# Altium footprint library RADIAL, CAN - THRU 25.4mm.PcbLib: 1 footprints
Each footprint in its own frame and in the unit in brackets; x right, y up, seen from the top. Pads: shape width x height; smd on the part's side, far side on the other; paste and mask are expansions set on the pad; w line width, h text height; cw(c..) or ccw(c..) is an arc to the next point about the centre after c.
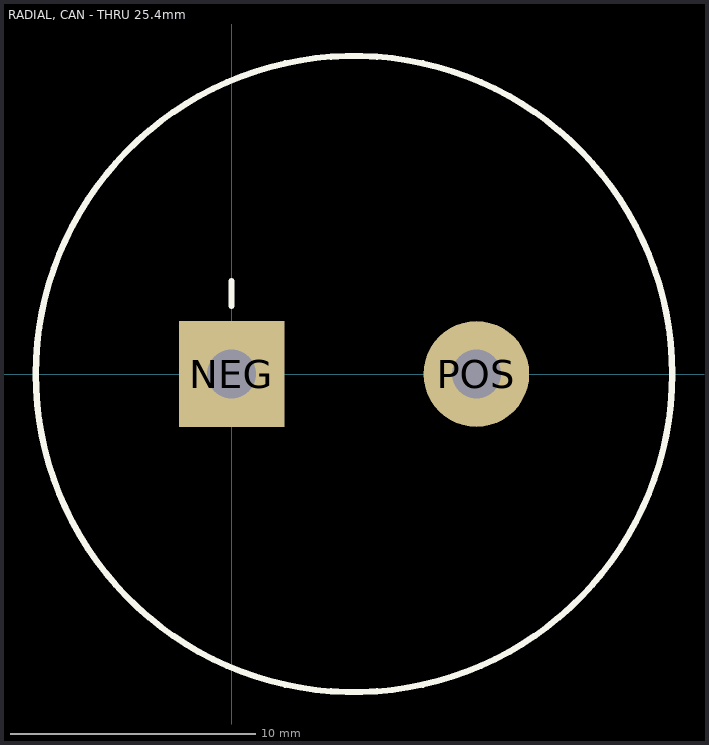
[diagram p0: the footprint, top view; thin cyan lines are the x and y axes]

## RADIAL, CAN - THRU 25.4mm [mil]
pads (2):
  rect 170x170 hole 78.74: NEG(0,0)
  round 170 hole 78.74: POS(393.7,0)
Top Overlay:
  circle w10: c196.85,0 r511.81
  lines w10: 0,109.61 0,149.61
3D body: height 1771.65, standoff 0, extent -303.15,-500 696.85,500